# Altium schematic symbol library LM5163-Q1.Schlib: 1 symbol
Pins are listed as number, name and electrical type; pins without a type are passive.

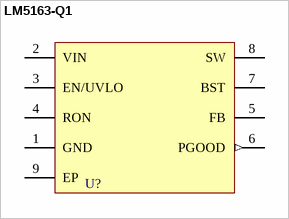
[diagram p0: symbol LM5163-Q1]

## LM5163-Q1
designator U?
100V Input, 0.5A Synchronous Buck DC/DC Converter / AEC-Q100-qualified
pins: 1 GND (power), 2 VIN (power), 3 EN/UVLO, 4 RON, 5 FB, 6 PGOOD (out), 7 BST, 8 SW, 9 EP (power)